# EAGLE library part PINHD_3X5 (library Shohei)
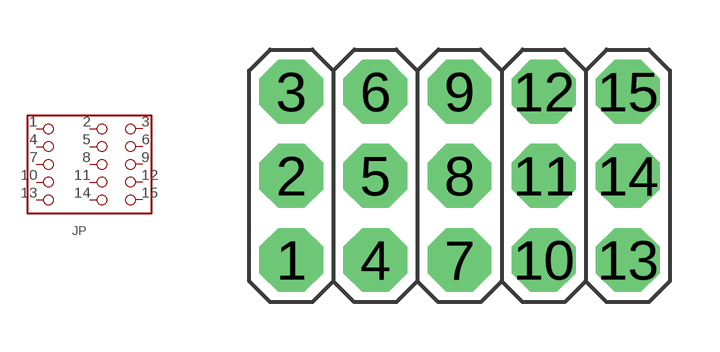
[diagram p5: symbol with the pads of PINHD_3X5; footprint PINHD_3X5]

Designator prefix JP

## PINHD_3X5  [PINHD_3X5]
1  1
2  2
3  3
4  4
5  5
6  6
7  7
8  8
9  9
10  10
11  11
12  12
13  13
14  14
15  15

## Footprint PINHD_3X5 (pad centres in mm)
drill 1 pad 1.93 octagon: 1 -5.08,-2.54; 2 -5.08,0; 3 -5.08,2.54; 4 -2.54,-2.54; 5 -2.54,0; 6 -2.54,2.54; 7 0,-2.54; 8 0,0; 9 0,2.54; 10 2.54,-2.54; 11 2.54,0; 12 2.54,2.54; 13 5.08,-2.54; 14 5.08,0; 15 5.08,2.54